# EAGLE library part MCP795 (library Microchip-MCP795xx)
RTC, SPI, 2K EEPROM, 64B SRAM, 10MSOP
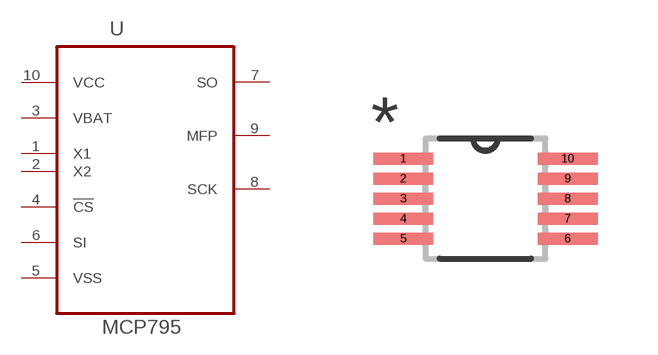
[diagram p0: symbol with the pads of SOP50P490X110-10N; footprint SOP50P490X110-10N]

Designator prefix U

## MCP79510-I/MS (MPN: MCP79510-I/MS; OC_FARNELL: 2361124; OC_NEWARK: 47T5346; PACKAGE: 10MSOP; SUPPLIER: MICROCHIP), MCP79511-I/MS (MPN: MCP79511-I/MS; OC_FARNELL: 2361125; OC_NEWARK: 47T5349; PACKAGE: 10MSOP; SUPPLIER: MICROCHIP), MCP79520-I/MS (MPN: MCP79520-I/MS; OC_FARNELL: Unknown; OC_NEWARK: 47T5355; PACKAGE: 10MSOP; SUPPLIER: MICROCHIP), MCP79521-I/MS (MPN: MCP79521-I/MS; OC_FARNELL: 2345962; OC_NEWARK: 47T5358; PACKAGE: 10MSOP; SUPPLIER: MICROCHIP), MCP79522-I/MS (MPN: MCP79522-I/MS; OC_FARNELL: 2345960; OC_NEWARK: 47T5361; PACKAGE: 10MSOP; SUPPLIER: MICROCHIP)  [SOP50P490X110-10N]
1  X1  in
2  X2  out
3  VBAT  in
4  !CS  in
5  VSS  pwr
6  SI  in
7  SO  out
8  SCK  pas
9  MFP  pas
10  VCC  pwr

## Footprint SOP50P490X110-10N (pad centres in mm)
smd 1.499 x 0.3: 1 -2.057,1; 2 -2.057,0.5; 3 -2.057,0; 4 -2.057,-0.5; 5 -2.057,-1; 6 2.057,-1; 7 2.057,-0.5; 8 2.057,0; 9 2.057,0.5; 10 2.057,1